# EAGLE library part LM380 (library dan)
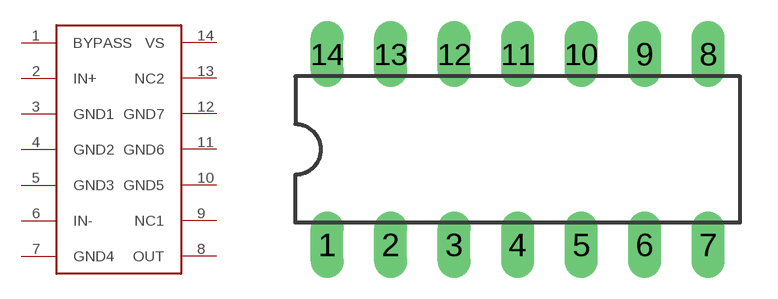
[diagram p19: symbol with the pads of DIL14; footprint DIL14]

Designator prefix -

## LM380  [DIL14]
1  BYPASS
2  IN+
3  GND1
4  GND2
5  GND3
6  IN-
7  GND4
8  OUT
9  NC1
10  GND5
11  GND6
12  GND7
13  NC2
14  VS

## Footprint DIL14 (pad centres in mm)
Dual In Line Package
drill 0.813 long: 1 -7.62,-3.81; 2 -5.08,-3.81; 3 -2.54,-3.81; 4 0,-3.81; 5 2.54,-3.81; 6 5.08,-3.81; 7 7.62,-3.81; 8 7.62,3.81; 9 5.08,3.81; 10 2.54,3.81; 11 0,3.81; 12 -2.54,3.81; 13 -5.08,3.81; 14 -7.62,3.81